# Altium integrated library CFClib.IntLib: 14 symbols
Pins are listed as number, name and electrical type; pins without a type are passive.

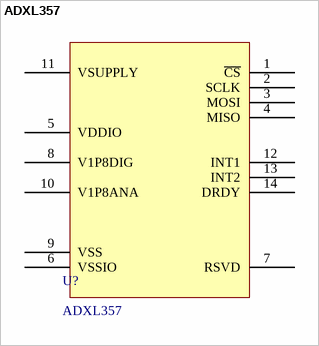
[diagram p0: symbol ADXL357]

## ADXL357
designator U?
footprint LCCS127P605X560X220-14N (LCC, 14-Pins, Body 6.05x5.60mmx2.20mm, Pitch 1.27mm, IPC Medium Density)
pins: 1 ~{CS}, 2 SCLK, 3 MOSI, 4 MISO, 5 VDDIO, 6 VSSIO, 7 RSVD, 8 V1P8DIG, 9 VSS, 10 V1P8ANA, 11 VSUPPLY, 12 INT1, 13 INT2, 14 DRDY


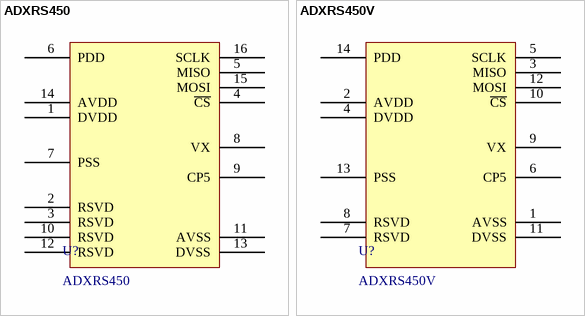
[diagram p1: symbols ADXRS450 to ADXRS450V]

## ADXRS450
designator U?
footprint SOIC127P1040X373-16N (SOIC, 16-Leads, Body 10.30x7.80mm, Pitch 1.27mm, IPC Medium Density)
pins: 1 DVDD, 2 RSVD, 3 RSVD, 4 ~{CS}, 5 MISO, 6 PDD, 7 PSS, 8 VX, 9 CP5, 10 RSVD, 11 AVSS, 12 RSVD, 13 DVSS, 14 AVDD, 15 MOSI, 16 SCLK

## ADXRS450V
designator U?
footprint LCC127P900X400X915-14N (LCC, 14-Pins, Body 9.00x4.00mmx9.15mm, Pitch 1.27mm, IPC Medium Density)
pins: 1 AVSS, 2 AVDD, 3 MISO, 4 DVDD, 5 SCLK, 6 CP5, 7 RSVD, 8 RSVD, 9 VX, 10 ~{CS}, 11 DVSS, 12 MOSI, 13 PSS, 14 PDD


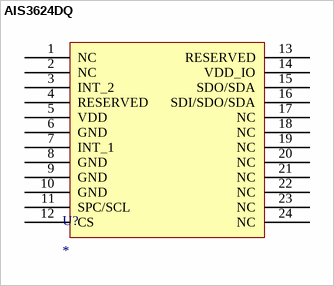
[diagram p2: symbol AIS3624DQ]

## AIS3624DQ
designator U?
footprint QFN50P400X400X180_HS-25N (QFN, 24-Leads, Body 4.00x4.00mm, Pitch 0.50mm, Thermal Pad 2.30x2.30mm, IPC Medium Density)
pins: 1 NC, 2 NC, 3 INT_2, 4 RESERVED, 5 VDD, 6 GND, 7 INT_1, 8 GND, 9 GND, 10 GND, 11 SPC/SCL, 12 CS, 13 RESERVED, 14 VDD_IO, 15 SDO/SDA, 16 SDI/SDO/SDA, 17 NC, 18 NC, 19 NC, 20 NC, 21 NC, 22 NC, 23 NC, 24 NC


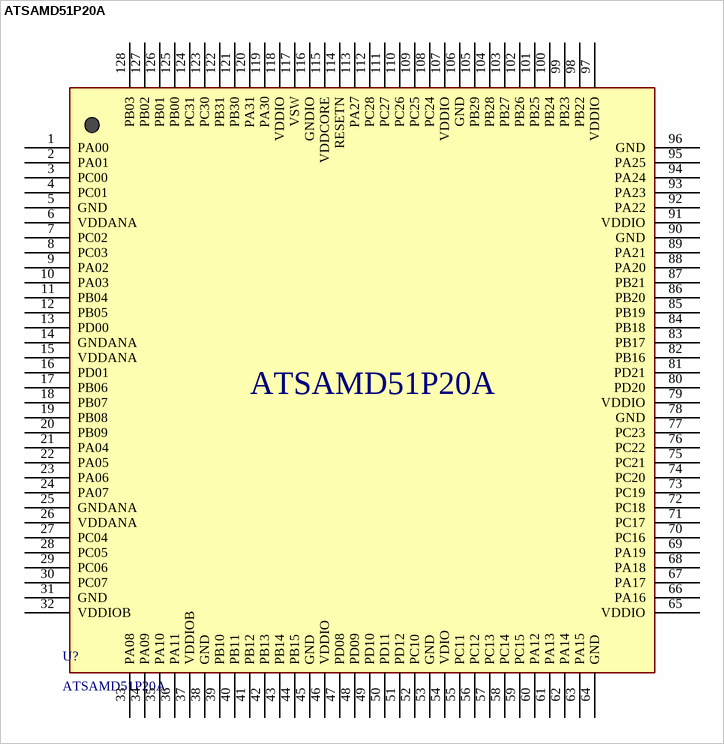
[diagram p3: symbol ATSAMD51P20A]

## ATSAMD51P20A
designator U?
https://www.microchip.com/wwwproducts/en/ATSAMD51P20A#additional-features; ComponentLink1Description: ATSAMD51P20A; ComponentLink1URL: https://www.microchip.com/wwwproducts/en/ATSAMD51P20A#additional-features
footprint TSQFP40P1600X1600X105-128N (TSQFP, 128-Leads, Body 14.00x14.00mm, Pitch 0.40mm, IPC Medium Density)
pins: 1 PA00, 2 PA01, 3 PC00, 4 PC01, 5 GND, 6 VDDANA, 7 PC02, 8 PC03, 9 PA02, 10 PA03, 11 PB04, 12 PB05, 13 PD00, 14 GNDANA, 15 VDDANA, 16 PD01, 17 PB06, 18 PB07, 19 PB08, 20 PB09, 21 PA04, 22 PA05, 23 PA06, 24 PA07, 25 GNDANA, 26 VDDANA, 27 PC04, 28 PC05, 29 PC06, 30 PC07, 31 GND, 32 VDDIOB, 33 PA08, 34 PA09, 35 PA10, 36 PA11, 37 VDDIOB, 38 GND, 39 PB10, 40 PB11, 41 PB12, 42 PB13, 43 PB14, 44 PB15, 45 GND, 46 VDDIO, 47 PD08, 48 PD09, 49 PD10, 50 PD11, 51 PD12, 52 PC10, 53 GND, 54 VDIO, 55 PC11, 56 PC12, 57 PC13, 58 PC14, 59 PC15, 60 PA12, 61 PA13, 62 PA14, 63 PA15, 64 GND, 65 VDDIO, 66 PA16, 67 PA17, 68 PA18, 69 PA19, 70 PC16, 71 PC17, 72 PC18, 73 PC19, 74 PC20, 75 PC21, 76 PC22, 77 PC23, 78 GND, 79 VDDIO, 80 PD20, 81 PD21, 82 PB16, 83 PB17, 84 PB18, 85 PB19, 86 PB20, 87 PB21, 88 PA20, 89 PA21, 90 GND, 91 VDDIO, 92 PA22, 93 PA23, 94 PA24, 95 PA25, 96 GND, 97 VDDIO, 98 PB22, 99 PB23, 100 PB24, 101 PB25, 102 PB26, 103 PB27, 104 PB28, 105 PB29, 106 GND, 107 VDDIO, 108 PC24, 109 PC25, 110 PC26, 111 PC27, 112 PC28, 113 PA27, 114 RESETN, 115 VDDCORE, 116 GNDIO, 117 VSW, 118 VDDIO, 119 PA30, 120 PA31, 121 PB30, 122 PB31, 123 PC30, 124 PC31, 125 PB00, 126 PB01, 127 PB02, 128 PB03


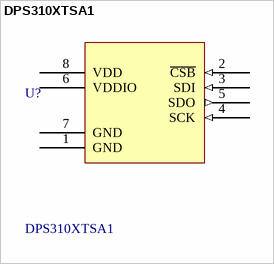
[diagram p4: symbol DPS310XTSA1]

## DPS310XTSA1
designator U?
Pressure Sensor 0.3kPa to 1.2kPa Absolute 8-Pin LGA; MF: Infineon; Availability: Unavailable; Price: None; SnapEDA_Link: https://www.snapeda.com/parts/DPS310XTSA1/Infineon%20Technologies/view-part/?ref=snap; MP: DPS310XTSA1; Package: LGA-8 Infineon; Value: *
footprint *DFN250X200X100-8N
pins: 1 GND, 2 ~{CSB} (in), 3 SDI (in), 4 SCK (in), 5 SDO (out), 6 VDDIO, 7 GND, 8 VDD


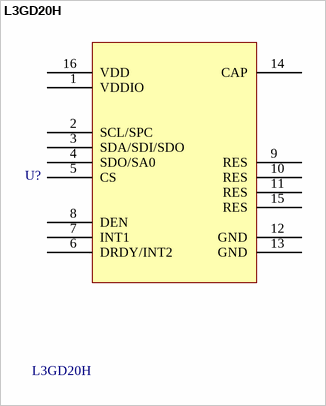
[diagram p5: symbol L3GD20H]

## L3GD20H
designator U?
MEMS motion sensor: 3-axis digital output gyroscope; MF: STMicroelectronics; Price: None; Package: LGA-16 STMicroelectronics; SnapEDA_Link: https://www.snapeda.com/parts/L3GD20H/STMicroelectronics/view-part/?ref=snap; Availability: Unavailable; MP: L3GD20H; Value: *
footprint *LGA16-0.5-3X3MM
footprint PQFN50P300X300X100-16N (PQFN, 16-Leads, Body 3.00x3.00mm, Pitch 0.50mm, IPC Medium Density)
pins: 1 VDDIO, 2 SCL/SPC, 3 SDA/SDI/SDO, 4 SDO/SA0, 5 CS, 6 DRDY/INT2, 7 INT1, 8 DEN, 9 RES, 10 RES, 11 RES, 12 GND, 13 GND, 14 CAP, 15 RES, 16 VDD


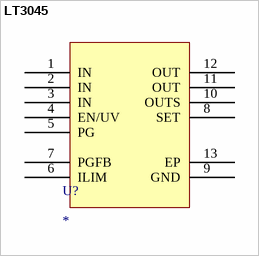
[diagram p6: symbol LT3045]

## LT3045
designator U?
footprint TSOP65P490X110_HS-13N (TSOP, 12-Leads, Body 4.04x3.00mm, Pitch 0.65mm, Thermal Pad 2.95x1.76mm, IPC Medium Density)
pins: 1 IN, 2 IN, 3 IN, 4 EN/UV, 5 PG, 6 ILIM, 7 PGFB, 8 SET, 9 GND, 10 OUTS, 11 OUT, 12 OUT, 13 EP


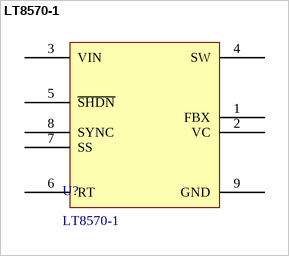
[diagram p7: symbol LT8570-1]

## LT8570-1
designator U?
pins: 1 FBX, 2 VC, 3 VIN, 4 SW, 5 ~{SHDN}, 6 RT, 7 SS, 8 SYNC, 9 GND


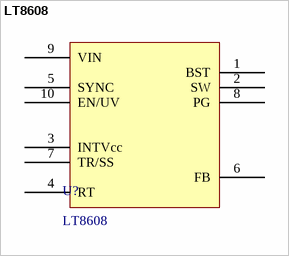
[diagram p8: symbol LT8608]

## LT8608
designator U?
footprint TSSOP50P490X110_HS-11N (TSSOP, 10-Leads, Body 3.00x3.00mm, Pitch 0.50mm, Thermal Pad 1.88x1.68mm, IPC Medium Density)
pins: 1 BST, 2 SW, 3 INTVcc, 4 RT, 5 SYNC, 6 FB, 7 TR/SS, 8 PG, 9 VIN, 10 EN/UV


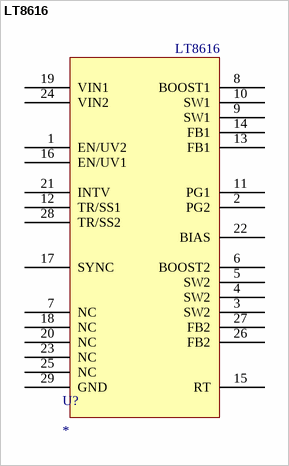
[diagram p9: symbol LT8616]

## LT8616
designator U?
footprint TSOP65P640X120_HS-29N (TSOP, 28-Leads, Body 9.70x4.40mm, Pitch 0.65mm, Thermal Pad 4.75x2.74mm, IPC Medium Density)
pins: 1 EN/UV2, 2 PG2, 3 SW2, 4 SW2, 5 SW2, 6 BOOST2, 7 NC, 8 BOOST1, 9 SW1, 10 SW1, 11 PG1, 12 TR/SS1, 13 FB1, 14 FB1, 15 RT, 16 EN/UV1, 17 SYNC, 18 NC, 19 VIN1, 20 NC, 21 INTV, 22 BIAS, 23 NC, 24 VIN2, 25 NC, 26 FB2, 27 FB2, 28 TR/SS2, 29 GND


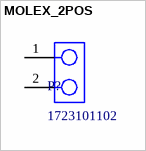
[diagram p10: symbol MOLEX_2POS]

## MOLEX_2POS
designator P?, comment 1723101102
CONN HEADER R/A 2POS 3.5MM; ComponentLink1Description: Datasheet; ComponentLink1URL: https://www.molex.com/pdm_docs/sd/1723101102_sd.pdf; ComponentLink2Description: Vendor; ComponentLink2URL: https://www.digikey.com/products/en?keywords=1723101102
footprint PCBComponent_1
pins: 1 42 (power), 2 43 (power)


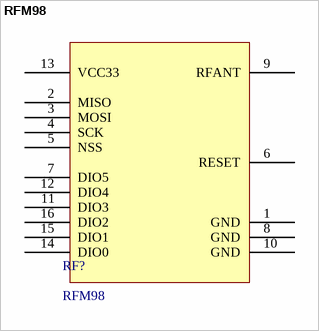
[diagram p11: symbol RFM98]

## RFM98
designator RF?
footprint *MOD_COM-13909
footprint *MOD_COM-13909
pins: 1 GND, 2 MISO, 3 MOSI, 4 SCK, 5 NSS, 6 RESET, 7 DIO5, 8 GND, 9 RFANT, 10 GND, 11 DIO3, 12 DIO4, 13 VCC33, 14 DIO0, 15 DIO1, 16 DIO2


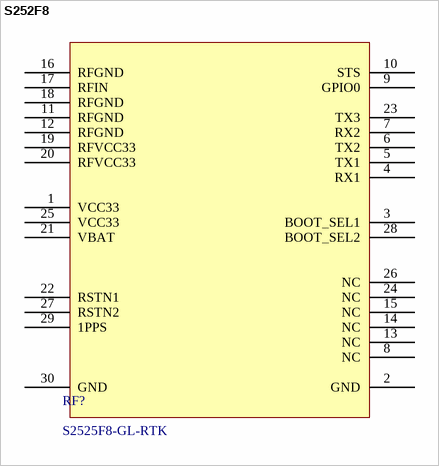
[diagram p12: symbol S252F8]

## S252F8
designator RF?, comment S2525F8‐GL‐RTK
GPS Module; ComponentLink1Description: Datasheet; ComponentLink1URL: http://navspark.mybigcommerce.com/content/S2525F8-GL-RTK_v2.pdf
footprint CAF-128P2540X2540-30N (Chip Array, Flat, 30-Leads, Pitch 1.28mm,  Body 25.40x25.40mm,  IPC Medium Density)
footprint CAF-128P2540X2540-30N (Chip Array, Flat, 30-Leads, Pitch 1.28mm,  Body 25.40x25.40mm,  IPC Medium Density)
pins: 1 VCC33, 2 GND, 3 BOOT_SEL1, 4 RX1, 5 TX1, 6 TX2, 7 RX2, 8 NC, 9 GPIO0, 10 STS, 11 RFGND, 12 RFGND, 13 NC, 14 NC, 15 NC, 16 RFGND, 17 RFIN, 18 RFGND, 19 RFVCC33, 20 RFVCC33, 21 VBAT, 22 RSTN1, 23 TX3, 24 NC, 25 VCC33, 26 NC, 27 RSTN2, 28 BOOT_SEL2, 29 1PPS, 30 GND